# Altium footprint library SMD Miscellaneous Components.PcbLib: 20 footprints (part 1 of 2)
Each footprint in its own frame and in the unit in brackets; x right, y up, seen from the top. Pads: shape width x height; smd on the part's side, far side on the other; paste and mask are expansions set on the pad; w line width, h text height; cw(c..) or ccw(c..) is an arc to the next point about the centre after c.
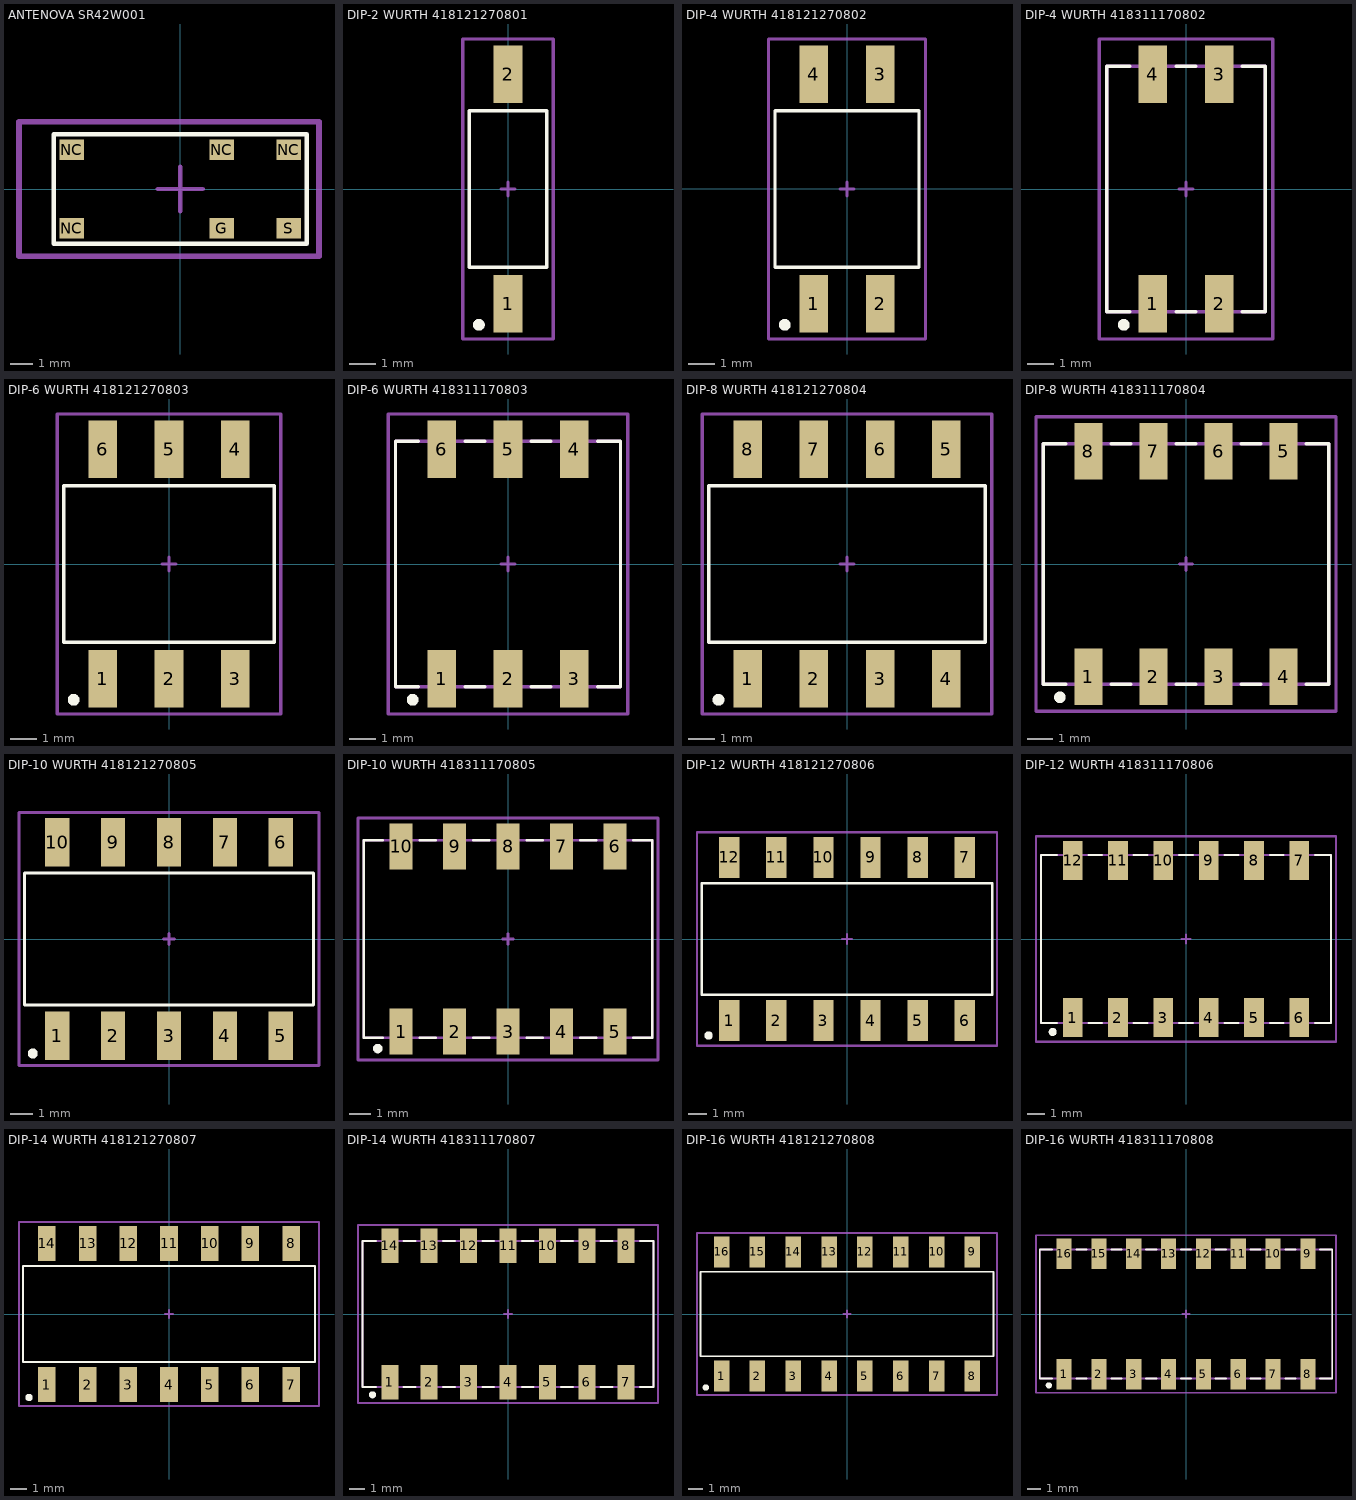
[diagram p0: the footprints below, top view; thin cyan lines are the x and y axes]

## ANTENOVA SR42W001 [mm]
height 0.9
pads (6):
  rect 1.1x0.9 smd: G(1.85,-1.75) NC(-4.85,-1.75) NC(-4.85,1.75) NC(1.85,1.75) NC(4.85,1.75) S(4.85,-1.75)
Top Overlay:
  lines w0.2: -5.65,-2.45 -5.65,-1.75 -5.65,2.45 5.65,2.45 5.65,-2.45 -5.65,-2.45
Mechanical 15:
  lines w0.2: -1,0 1,0 ; 0,-1 0,1
  lines w0.254: -7.2,-3 6.2,-3 6.2,3 -7.2,3 -7.2,-3
3D body "Antenova SR42W001_Mutica.STEP": height 0.88, standoff 0, extent -5.65,-2.5 5.65,2.5

## DIP-2 WURTH 418121270801 [mm] "01p, 2.54mm Pitch, Horizontal, IC Type, SMT, raised Actuator, black, without Tape, T&R"
height 4.4
pads (2):
  rect 1.1x2.2 smd: 1(0,-4.4) 2(0,4.4)
Top Overlay:
  circle w0.25: c-1.116,-5.207 r0.1
  lines w0.127: -1.49,-3 1.49,-3 1.49,3 -1.49,3 -1.49,-3
Mechanical 15:
  lines w0.127: -0.254,0 0.254,0 ; 0,-0.254 0,0.254 ; -1.74,-5.75 1.74,-5.75 1.74,5.75 -1.74,5.75 -1.74,-5.75
3D body "418121270801.stp": height 4.4, standoff -0.04, extent -1.49,-4.95 1.49,4.95

## DIP-4 WURTH 418121270802 [mm] "02p, 2.54mm Pitch, Horizontal, IC Type, SMT, raised Actuator, black, without Tape, T&R"
height 4.4
pads (4):
  rect 1.1x2.2 smd: 1(-1.27,-4.4) 2(1.27,-4.4) 3(1.27,4.4) 4(-1.27,4.4)
Top Overlay:
  circle w0.25: c-2.386,-5.207 r0.1
  lines w0.127: -2.76,-3 2.76,-3 2.76,3 -2.76,3 -2.76,-3
Mechanical 15:
  lines w0.127: -0.254,0 0.254,0 ; 0,-0.254 0,0.254 ; -3.01,-5.75 3.01,-5.75 3.01,5.75 -3.01,5.75 -3.01,-5.75
3D body "418121270802.stp": height 4.4, standoff -0.03, extent -2.76,-4.85 2.76,4.85

## DIP-4 WURTH 418311170802 [mm] "02p, 2.54mm Pitch, Piano, Box Type SMT, flat Actuator, black, without Tape, T&R"
height 6.5
pads (4):
  rect 1.1x2.2 smd: 1(-1.27,-4.4) 2(1.27,-4.4) 3(1.27,4.4) 4(-1.27,4.4)
Top Overlay:
  circle w0.25: c-2.386,-5.207 r0.1
  lines w0.127: -2.159,-4.7 -3.04,-4.7 -3.04,4.7 -2.159,4.7 ; -0.381,-4.7 0.381,-4.7 ; -0.381,4.7 0.381,4.7 ; 2.159,-4.7 3.04,-4.7 3.04,4.7 2.159,4.7
Mechanical 13:
  lines w0.127: -3.04,-4.7 -3.04,4.7 3.04,4.7 3.04,-4.7 -3.04,-4.7
Mechanical 15:
  lines w0.127: -0.254,0 0.254,0 ; 0,-0.254 0,0.254 ; -3.32,-5.75 -3.32,5.75 3.32,5.75 3.32,-5.75 -3.32,-5.75
3D body "418311170802.stp": height 6.5, standoff -0.05, extent -3.04,-5.2 3.04,5.2

## DIP-6 WURTH 418121270803 [mm] "03p, 2.54mm Pitch, Horizontal, IC Type, SMT, raised Actuator, black, without Tape, T&R"
height 4.4
pads (6):
  rect 1.1x2.2 smd: 1(-2.54,-4.4) 2(0,-4.4) 3(2.54,-4.4) 4(2.54,4.4) 5(0,4.4) 6(-2.54,4.4)
Top Overlay:
  circle w0.25: c-3.656,-5.207 r0.1
  lines w0.127: -4.03,-3 4.03,-3 4.03,3 -4.03,3 -4.03,-3
Mechanical 15:
  lines w0.127: -0.254,0 0.254,0 ; 0,-0.254 0,0.254 ; -4.28,-5.75 -4.28,5.75 4.28,5.75 4.28,-5.75 -4.28,-5.75
3D body "418121270803.stp": height 4.4, standoff -0.03, extent -4.03,-4.85 4.03,4.85

## DIP-6 WURTH 418311170803 [mm] "03p, 2.54mm Pitch, Piano, Box Type SMT, flat Actuator, black, without Tape, T&R"
height 6.5
pads (6):
  rect 1.1x2.2 smd: 1(-2.54,-4.4) 2(0,-4.4) 3(2.54,-4.4) 4(2.54,4.4) 5(0,4.4) 6(-2.54,4.4)
Top Overlay:
  circle w0.25: c-3.656,-5.207 r0.1
  lines w0.127: -3.429,-4.7 -4.31,-4.7 -4.31,4.7 -3.429,4.7 ; -1.651,-4.7 -0.889,-4.7 ; -1.651,4.7 -0.889,4.7 ; 0.889,-4.7 1.651,-4.7 ; 0.889,4.7 1.651,4.7 ; 3.429,-4.7 4.31,-4.7 4.31,4.7 3.429,4.7
Mechanical 13:
  lines w0.127: -4.31,-4.7 -4.31,4.7 4.31,4.7 4.31,-4.7 -4.31,-4.7
Mechanical 15:
  lines w0.127: -0.254,0 0.254,0 ; 0,-0.254 0,0.254 ; -4.59,-5.75 4.59,-5.75 4.59,5.75 -4.59,5.75 -4.59,-5.75
3D body "418311170803.stp": height 6.5, standoff -0.05, extent -4.31,-5.2 4.31,5.2

## DIP-8 WURTH 418121270804 [mm] "04p, 2.54mm Pitch, Horizontal, IC Type, SMT, raised Actuator, black, without Tape, T&R"
height 4.4
pads (8):
  rect 1.1x2.2 smd: 1(-3.81,-4.4) 2(-1.27,-4.4) 3(1.27,-4.4) 4(3.81,-4.4) 5(3.81,4.4) 6(1.27,4.4) 7(-1.27,4.4) 8(-3.81,4.4)
Top Overlay:
  circle w0.25: c-4.926,-5.207 r0.1
  lines w0.127: -5.3,-3 -5.3,3 5.3,3 5.3,-3 -5.3,-3
Mechanical 15:
  lines w0.127: -0.254,0 0.254,0 ; 0,-0.254 0,0.254 ; -5.55,-5.75 -5.55,5.75 5.55,5.75 5.55,-5.75 -5.55,-5.75
3D body "418121270804.stp": height 4.4, standoff -0.03, extent -5.3,-4.85 5.3,4.85

## DIP-8 WURTH 418311170804 [mm] "04p, 2.54mm Pitch, Piano, Box Type SMT, flat Actuator, black, without Tape, T&R"
height 6.5
pads (8):
  rect 1.1x2.2 smd: 1(-3.81,-4.4) 2(-1.27,-4.4) 3(1.27,-4.4) 4(3.81,-4.4) 5(3.81,4.4) 6(1.27,4.4) 7(-1.27,4.4) 8(-3.81,4.4)
Top Overlay:
  circle w0.25: c-4.926,-5.207 r0.1
  lines w0.127: -4.699,-4.7 -5.58,-4.7 -5.58,4.7 -4.699,4.7 ; -2.921,-4.7 -2.159,-4.7 ; -2.921,4.7 -2.159,4.7 ; -0.381,-4.698 0.381,-4.698 ; -0.381,4.7 0.381,4.7 ; 2.159,-4.7 2.921,-4.7 ; 2.159,4.7 2.921,4.7 ; 4.699,-4.7 5.58,-4.7 5.58,4.7 4.699,4.7
Mechanical 13:
  lines w0.127: -5.58,-4.7 5.58,-4.7 5.58,4.7 -5.58,4.7 -5.58,-4.7
Mechanical 15:
  lines w0.127: -0.254,0 0.254,0 ; 0,-0.254 0,0.254 ; -5.86,-5.75 5.86,-5.75 5.86,5.75 -5.86,5.75 -5.86,-5.75
3D body "418311170804.stp": height 6.5, standoff -0.05, extent -5.58,-5.2 5.58,5.2

## DIP-10 WURTH 418121270805 [mm] "05p, 2.54mm Pitch, Horizontal, IC Type, SMT, raised Actuator, black, without Tape, T&R"
height 4.4
pads (10):
  rect 1.1x2.2 smd: 1(-5.08,-4.4) 2(-2.54,-4.4) 3(0,-4.4) 4(2.54,-4.4) 5(5.08,-4.4) 6(5.08,4.4) 7(2.54,4.4) 8(0,4.4) 9(-2.54,4.4) 10(-5.08,4.4)
Top Overlay:
  circle w0.25: c-6.196,-5.207 r0.1
  lines w0.127: -6.57,-3 -6.57,3 6.57,3 6.57,-3 -6.57,-3
Mechanical 15:
  lines w0.127: -0.254,0 0.254,0 ; 0,-0.254 0,0.254 ; -6.82,-5.75 -6.82,5.75 6.82,5.75 6.82,-5.75 -6.82,-5.75
3D body "418121270805.stp": height 4.4, standoff -0.03, extent -6.57,-4.85 6.57,4.85

## DIP-10 WURTH 418311170805 [mm] "05p, 2.54mm Pitch, Piano, Box Type SMT, flat Actuator, black, without Tape, T&R"
height 6.5
pads (10):
  rect 1.1x2.2 smd: 1(-5.08,-4.4) 2(-2.54,-4.4) 3(0,-4.4) 4(2.54,-4.4) 5(5.08,-4.4) 6(5.08,4.4) 7(2.54,4.4) 8(0,4.4) 9(-2.54,4.4) 10(-5.08,4.4)
Top Overlay:
  circle w0.25: c-6.196,-5.207 r0.1
  lines w0.127: -5.969,-4.7 -6.85,-4.7 -6.85,4.7 -5.969,4.7 ; -4.191,-4.7 -3.429,-4.7 ; -4.191,4.7 -3.429,4.7 ; -1.651,-4.698 -0.889,-4.698 ; -1.651,4.7 -0.889,4.7 ; 0.889,-4.698 1.651,-4.698 ; 0.889,4.7 1.651,4.7 ; 3.429,-4.7 4.191,-4.7 ; 3.429,4.7 4.191,4.7 ; 5.969,-4.7 6.85,-4.7 6.85,4.7 5.969,4.7
Mechanical 13:
  lines w0.127: -6.85,-4.7 6.85,-4.7 6.85,4.7 -6.85,4.7 -6.85,-4.7
Mechanical 15:
  lines w0.127: -0.254,0 0.254,0 ; 0,-0.254 0,0.254 ; -7.13,-5.75 7.13,-5.75 7.13,5.75 -7.13,5.75 -7.13,-5.75
3D body "418311170805.stp": height 6.5, standoff -0.05, extent -6.85,-5.2 6.85,5.2

## DIP-12 WURTH 418121270806 [mm] "06p, 2.54mm Pitch, Horizontal, IC Type, SMT, raised Actuator, black, without Tape, T&R"
height 4.4
pads (12):
  rect 1.1x2.2 smd: 1(-6.35,-4.4) 2(-3.81,-4.4) 3(-1.27,-4.4) 4(1.27,-4.4) 5(3.81,-4.4) 6(6.35,-4.4) 7(6.35,4.4) 8(3.81,4.4) 9(1.27,4.4) 10(-1.27,4.4) 11(-3.81,4.4) 12(-6.35,4.4)
Top Overlay:
  circle w0.25: c-7.466,-5.207 r0.1
  lines w0.127: -7.84,-3 7.84,-3 7.84,3 -7.84,3 -7.84,-3
Mechanical 15:
  lines w0.127: -0.254,0 0.254,0 ; 0,-0.254 0,0.254 ; -8.09,-5.75 8.09,-5.75 8.09,5.75 -8.09,5.75 -8.09,-5.75
3D body "418121270806.stp": height 4.4, standoff -0.03, extent -7.84,-4.85 7.84,4.85

## DIP-12 WURTH 418311170806 [mm] "06p, 2.54mm Pitch, Piano, Box Type SMT, flat Actuator, black, without Tape, T&R"
height 6.5
pads (12):
  rect 1.1x2.2 smd: 1(-6.35,-4.4) 2(-3.81,-4.4) 3(-1.27,-4.4) 4(1.27,-4.4) 5(3.81,-4.4) 6(6.35,-4.4) 7(6.35,4.4) 8(3.81,4.4) 9(1.27,4.4) 10(-1.27,4.4) 11(-3.81,4.4) 12(-6.35,4.4)
Top Overlay:
  circle w0.25: c-7.466,-5.207 r0.1
  lines w0.127: -7.239,-4.7 -8.12,-4.7 -8.12,4.7 -7.239,4.7 ; -5.461,-4.7 -4.699,-4.7 ; -5.461,4.7 -4.699,4.7 ; -2.921,-4.698 -2.159,-4.698 ; -2.921,4.7 -2.159,4.7 ; -0.381,-4.698 0.381,-4.698 ; -0.381,4.7 0.381,4.7 ; 2.159,-4.698 2.921,-4.698 ; 2.159,4.7 2.921,4.7 ; 4.699,-4.7 5.461,-4.7 ; 4.699,4.7 5.461,4.7 ; 7.239,-4.7 8.12,-4.7 8.12,4.7 7.239,4.7
Mechanical 13:
  lines w0.127: -8.12,-4.7 -8.12,4.7 8.12,4.7 8.12,-4.7 -8.12,-4.7
Mechanical 15:
  lines w0.127: -0.254,0 0.254,0 ; 0,-0.254 0,0.254 ; -8.4,-5.75 -8.4,5.75 8.4,5.75 8.4,-5.75 -8.4,-5.75
3D body "418311170806.stp": height 6.5, standoff -0.05, extent -8.12,-5.2 8.12,5.2

## DIP-14 WURTH 418121270807 [mm] "07p, 2.54mm Pitch, Horizontal, IC Type, SMT, raised Actuator, black, without Tape, T&R"
height 4.4
pads (14):
  rect 1.1x2.2 smd: 1(-7.62,-4.4) 2(-5.08,-4.4) 3(-2.54,-4.4) 4(0,-4.4) 5(2.54,-4.4) 6(5.08,-4.4) 7(7.62,-4.4) 8(7.62,4.4) 9(5.08,4.4) 10(2.54,4.4) 11(0,4.4) 12(-2.54,4.4) 13(-5.08,4.4) 14(-7.62,4.4)
Top Overlay:
  circle w0.25: c-8.736,-5.207 r0.1
  lines w0.127: -9.11,-3 -9.11,3 9.11,3 9.11,-3 -9.11,-3
Mechanical 15:
  lines w0.127: -0.254,0 0.254,0 ; 0,-0.254 0,0.254 ; -9.36,-5.75 -9.36,5.75 9.36,5.75 9.36,-5.75 -9.36,-5.75
3D body "418121270807.stp": height 4.4, standoff -0.03, extent -9.11,-4.85 9.11,4.85

## DIP-14 WURTH 418311170807 [mm] "07p, 2.54mm Pitch, Piano, Box Type SMT, flat Actuator, black, without Tape, T&R"
height 6.5
pads (14):
  rect 1.1x2.2 smd: 1(-7.62,-4.4) 2(-5.08,-4.4) 3(-2.54,-4.4) 4(0,-4.4) 5(2.54,-4.4) 6(5.08,-4.4) 7(7.62,-4.4) 8(7.62,4.4) 9(5.08,4.4) 10(2.54,4.4) 11(0,4.4) 12(-2.54,4.4) 13(-5.08,4.4) 14(-7.62,4.4)
Top Overlay:
  circle w0.25: c-8.736,-5.207 r0.1
  lines w0.127: -8.509,-4.7 -9.39,-4.7 -9.39,4.7 -8.509,4.7 ; -6.731,-4.7 -5.969,-4.7 ; -6.731,4.7 -5.969,4.7 ; -4.191,-4.698 -3.429,-4.698 ; -4.191,4.7 -3.429,4.7 ; -1.651,-4.698 -0.889,-4.698 ; -1.651,4.7 -0.889,4.7 ; 0.889,-4.698 1.651,-4.698 ; 0.889,4.7 1.651,4.7 ; 3.429,-4.698 4.191,-4.698 ; 3.429,4.7 4.191,4.7 ; 5.969,-4.7 6.731,-4.7 ; 5.969,-4.698 6.731,-4.698 ; 5.969,4.7 6.731,4.7 ; 8.509,-4.7 9.39,-4.7 9.39,4.7 8.509,4.7
Mechanical 13:
  lines w0.127: -9.39,-4.7 9.39,-4.7 9.39,4.7 -9.39,4.7 -9.39,-4.7
Mechanical 15:
  lines w0.127: -0.254,0 0.254,0 ; 0,-0.254 0,0.254 ; -9.67,-5.75 9.67,-5.75 9.67,5.75 -9.67,5.75 -9.67,-5.75
3D body "418311170807.stp": height 6.5, standoff -0.05, extent -9.39,-5.2 9.39,5.2

## DIP-16 WURTH 418121270808 [mm] "08p, 2.54mm Pitch, Horizontal, IC Type, SMT, raised Actuator, black, without Tape, T&R"
height 4.4
pads (16):
  rect 1.1x2.2 smd: 1(-8.89,-4.4) 2(-6.35,-4.4) 3(-3.81,-4.4) 4(-1.27,-4.4) 5(1.27,-4.4) 6(3.81,-4.4) 7(6.35,-4.4) 8(8.89,-4.4) 9(8.89,4.4) 10(6.35,4.4) 11(3.81,4.4) 12(1.27,4.4) 13(-1.27,4.4) 14(-3.81,4.4) 15(-6.35,4.4) 16(-8.89,4.4)
Top Overlay:
  circle w0.25: c-10.006,-5.207 r0.1
  lines w0.127: -10.38,-3 -10.38,3 10.38,3 10.38,-3 -10.38,-3
Mechanical 15:
  lines w0.127: -0.254,0 0.254,0 ; 0,-0.254 0,0.254 ; -10.63,-5.75 -10.63,5.75 10.63,5.75 10.63,-5.75 -10.63,-5.75
3D body "C.stp": height 4.41, standoff 0.01, extent -10.38,-4.85 10.38,4.85

## DIP-16 WURTH 418311170808 [mm] "08p, 2.54mm Pitch, Piano, Box Type SMT, flat Actuator, black, without Tape, T&R"
height 6.5
pads (16):
  rect 1.1x2.2 smd: 1(-8.89,-4.4) 2(-6.35,-4.4) 3(-3.81,-4.4) 4(-1.27,-4.4) 5(1.27,-4.4) 6(3.81,-4.4) 7(6.35,-4.4) 8(8.89,-4.4) 9(8.89,4.4) 10(6.35,4.4) 11(3.81,4.4) 12(1.27,4.4) 13(-1.27,4.4) 14(-3.81,4.4) 15(-6.35,4.4) 16(-8.89,4.4)
Top Overlay:
  circle w0.25: c-10.006,-5.207 r0.1
  lines w0.127: -9.779,-4.7 -10.66,-4.7 -10.66,4.7 -9.779,4.7 ; -8.001,-4.7 -7.239,-4.7 ; -8.001,4.7 -7.239,4.7 ; -5.461,-4.698 -4.699,-4.698 ; -5.461,4.7 -4.699,4.7 ; -2.921,-4.698 -2.159,-4.698 ; -2.921,4.7 -2.159,4.7 ; -0.381,-4.698 0.381,-4.698 ; -0.381,4.7 0.381,4.7 ; 2.159,-4.698 2.921,-4.698 ; 2.159,4.7 2.921,4.7 ; 4.699,-4.698 5.461,-4.698 ; 4.699,4.7 5.461,4.7 ; 7.239,-4.7 8.001,-4.7 ; 7.239,-4.698 8.001,-4.698 ; 9.779,-4.7 10.66,-4.7 10.66,4.7 9.779,4.7 ; 7.239,4.7 8.001,4.7 7.239,4.7
Mechanical 13:
  lines w0.127: -10.66,-4.7 -10.66,4.7 10.66,4.7 10.66,-4.7 -10.66,-4.7
Mechanical 15:
  lines w0.127: -0.254,0 0.254,0 ; 0,-0.254 0,0.254 ; -10.94,-5.75 -10.94,5.75 10.94,5.75 10.94,-5.75 -10.94,-5.75
3D body "418311170808.stp": height 6.5, standoff -0.05, extent -10.66,-5.2 10.66,5.2